# Altium integrated library Altium_SMD_Resister.IntLib: 493 symbols (part 7 of 8)
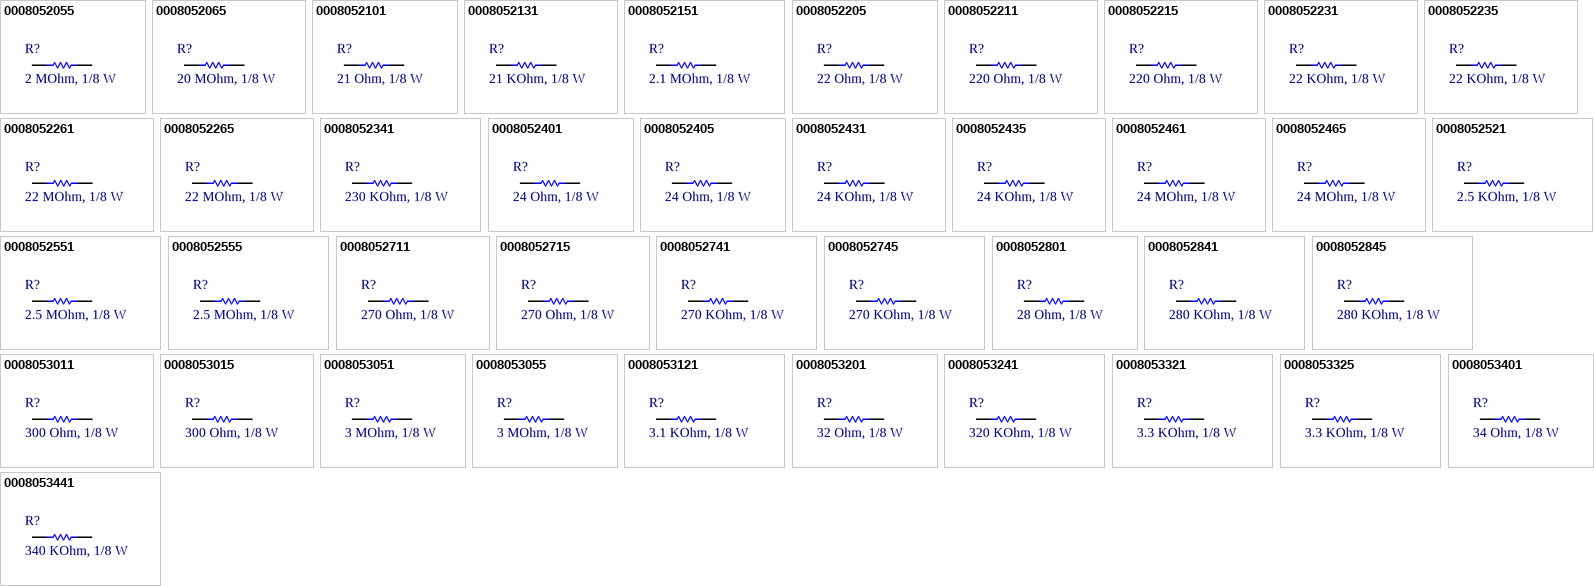
[diagram p18: symbols 0008052055 to 0008053441]

## 0008053051
designator R?, comment 3 MOhm, 1/8 W
RES, size 0805, 3 MOhm, 1/8 W; Manufacture  Name: Vishay / Dale; Manufacture  SN: CRCW08053M00FKEA; Resistance tolerance: +/-1%; Rated Power: 1/8 W; Resistance: 3 MOhm; Size: 0805; Mounting Technology: SMT; Datasheet: https://www.vishay.com/doc?20035; Supplier 1 Name: Mouser; Supplier 1 SN: 71-CRCW08053M00FKEA; Supplier 1 URL: https://www.mouser.vn/ProductDetail/Vishay-Dale/CRCW08053M00FKEA?qs=kJXytlGtIWmJu2iuqz4MEQ%3D%3D; Supplier 2 Name: Digi-Key; Supplier 2 SN: RHM3.00MAHTR-ND - Tape & Reel (TR); Supplier 2 URL: https://www.digikey.com/en/products/detail/rohm-semiconductor/KTR10EZPF3004/1983650; Supplier 3 Name: Thegioiic; Supplier 3 SN: N/A; Supplier 3 URL: N/A; Value: 3 MOhm, 1/8 W
footprint RESISTOR_0805 (Chip Resistor, 2-Leads, Body 2,00x1,20mm, IPC Medium Density)
pins: 1, 2

## 0008053055
designator R?, comment 3 MOhm, 1/8 W
RES, size 0805, 3 MOhm, 1/8 W; Manufacture  Name: Panasonic; Manufacture  SN: ERJ-6GEYJ305V; Resistance tolerance: +/-5%; Rated Power: 1/8 W; Resistance: 3 MOhm; Size: 0805; Mounting Technology: SMT; Datasheet: https://www.mouser.vn/datasheet/2/315/AOA0000C301-1488782.pdf; Supplier 1 Name: Mouser; Supplier 1 SN: 667-ERJ-6GEYJ305V; Supplier 1 URL: https://www.mouser.vn/ProductDetail/Panasonic/ERJ-6GEYJ305V?qs=YMBIwoNQYdW%2FI7cx0FQYDA%3D%3D; Supplier 2 Name: Digi-Key; Supplier 2 SN: P3.0MATR-ND - Tape & Reel (TR); Supplier 2 URL: https://www.digikey.com/en/products/detail/panasonic-electronic-components/ERJ-6GEYJ305V/282179; Supplier 3 Name: Thegioiic; Supplier 3 SN: N/A; Supplier 3 URL: N/A; Value: 3 MOhm, 1/8 W
footprint RESISTOR_0805 (Chip Resistor, 2-Leads, Body 2,00x1,20mm, IPC Medium Density)
pins: 1, 2

## 0008053121
designator R?, comment 3.1 KOhm, 1/8 W
RES, size 0805, 3.1 KOhm, 1/8 W; Manufacture  Name: Royalohm; Manufacture  SN: 0805W8F3101T5E; Resistance tolerance: +/-1%; Rated Power: 1/8 W; Size: 0805; Mounting Technology: SMT; Datasheet: https://www.mouser.vn/datasheet/2/1365/1-3044649.pdf; Resistance: 3.1 KOhm; Supplier 1 Name: Mouser; Supplier 1 SN: 303-0805W8F3101T5E; Supplier 1 URL: https://www.mouser.vn/ProductDetail/Royalohm/0805W8F3101T5E?qs=e8oIoAS2J1Tf1Mb5mAEVdw%3D%3D; Supplier 2 Name: Digi-Key; Supplier 2 SN: N/A; Supplier 2 URL: N/A; Supplier 3 Name: Thegioiic; Supplier 3 SN: N/A; Supplier 3 URL: N/A; Value: 3.1 KOhm, 1/8 W
footprint RESISTOR_0805 (Chip Resistor, 2-Leads, Body 2,00x1,20mm, IPC Medium Density)
pins: 1, 2

## 0008053201
designator R?, comment 32 Ohm, 1/8 W
RES, size 0805, 32 Ohm, 1/8 W; Manufacture  Name: KOA Speer Electronics, Inc.; Manufacture  SN: RN73R2ATTD32R0F100; Resistance tolerance: +/-1%; Rated Power: 1/8 W; Resistance: 32 Ohm; Size: 0805; Mounting Technology: SMT; Datasheet: https://media.digikey.com/pdf/Data%20Sheets/KOA%20Speer/RN73R_Type_DS.pdf; Supplier 1 Name: Mouser; Supplier 1 SN: N/A; Supplier 1 URL: N/A; Supplier 2 Name: Digi-Key; Supplier 2 SN: 2019-RN73R2ATTD32R0F100TR-ND - Tape & Reel (TR); Supplier 2 URL: https://www.digikey.com/en/products/detail/koa-speer-electronics-inc/RN73R2ATTD32R0F100/10030831; Supplier 3 Name: Thegioiic; Supplier 3 SN: N/A; Supplier 3 URL: N/A; Value: 32 Ohm, 1/8 W
footprint RESISTOR_0805 (Chip Resistor, 2-Leads, Body 2,00x1,20mm, IPC Medium Density)
pins: 1, 2

## 0008053241
designator R?, comment 320 KOhm, 1/8 W
RES, size 0805, 320 KOhm, 1/8 W; Manufacture  Name: Royalohm; Manufacture  SN: 0805W8F3203T5E; Resistance tolerance: +/-1%; Rated Power: 1/8 W; Size: 0805; Mounting Technology: SMT; Datasheet: https://www.mouser.vn/datasheet/2/1365/1-3044649.pdf; Resistance: 320 KOhm; Supplier 1 Name: Mouser; Supplier 1 SN: 303-0805W8F3203T5E; Supplier 1 URL: https://www.mouser.vn/ProductDetail/Royalohm/0805W8F3203T5E?qs=e8oIoAS2J1SLbDpmWuICGg%3D%3D; Supplier 2 Name: Digi-Key; Supplier 2 SN: 2019-RN73H2ATTD3203F100TR-ND - Tape & Reel (TR); Supplier 2 URL: https://www.digikey.com/en/products/detail/koa-speer-electronics-inc/RN73H2ATTD3203F100/10090183; Supplier 3 Name: Thegioiic; Supplier 3 SN: N/A; Supplier 3 URL: N/A; Value: 320 KOhm, 1/8 W
footprint RESISTOR_0805 (Chip Resistor, 2-Leads, Body 2,00x1,20mm, IPC Medium Density)
pins: 1, 2

## 0008053321
designator R?, comment 3.3 KOhm, 1/8 W
RES, size 0805, 3.3 KOhm, 1/8 W; Manufacture  Name: Panasonic; Manufacture  SN: ERJ-6ENF3301V; Resistance tolerance: +/-1%; Rated Power: 1/8 W; Size: 0805; Mounting Technology: SMT; Datasheet: https://www.mouser.vn/datasheet/2/315/AOA0000C304-1149620.pdf; Resistance: 3.3 KOhm; Supplier 1 Name: Mouser; Supplier 1 SN: 667-ERJ-6ENF3301V; Supplier 1 URL: https://www.mouser.vn/ProductDetail/Panasonic/ERJ-6ENF3301V?qs=sGAEpiMZZMtlubZbdhIBIGigBIB3A6R9dIvMOtC7jmQ%3D; Supplier 2 Name: Digi-Key; Supplier 2 SN: 13-RC0805FR-133K3LTR-ND - Tape & Reel (TR); Supplier 2 URL: https://www.digikey.com/en/products/detail/yageo/RC0805FR-133K3L/14008213; Supplier 3 Name: Thegioiic; Supplier 3 SN: N/A; Supplier 3 URL: https://www.thegioiic.com/dien-tro-3-3-kohm-0805-1-; Value: 3.3 KOhm, 1/8 W
footprint RESISTOR_0805 (Chip Resistor, 2-Leads, Body 2,00x1,20mm, IPC Medium Density)
pins: 1, 2

## 0008053325
designator R?, comment 3.3 KOhm, 1/8 W
RES, size 0805, 3.3 KOhm, 1/8 W; Manufacture  Name: Panasonic; Manufacture  SN: ERJ-S06J332V; Resistance tolerance: +/-5%; Rated Power: 1/8 W; Size: 0805; Mounting Technology: SMT; Datasheet: https://www.mouser.vn/datasheet/2/315/AOA0000C334-1314047.pdf; Resistance: 3.3 KOhm; Supplier 1 Name: Mouser; Supplier 1 SN: 667-ERJ-S06J332V; Supplier 1 URL: https://www.mouser.vn/ProductDetail/Panasonic/ERJ-S06J332V?qs=Lnc17S3XxqC89pwdWk%2FMHQ%3D%3D; Supplier 2 Name: Digi-Key; Supplier 2 SN: P3.3KATR-ND - Tape & Reel (TR); Supplier 2 URL: https://www.digikey.com/en/products/detail/panasonic-electronic-components/ERJ-6GEYJ332V/83038; Supplier 3 Name: Thegioiic; Supplier 3 SN: N/A; Supplier 3 URL: https://www.thegioiic.com/dien-tro-3-3-kohm-0805-5; Value: 3.3 KOhm, 1/8 W
footprint RESISTOR_0805 (Chip Resistor, 2-Leads, Body 2,00x1,20mm, IPC Medium Density)
pins: 1, 2

## 0008053401
designator R?, comment 34 Ohm, 1/8 W
RES, size 0805, 34 Ohm, 1/8 W; Manufacture  Name: Panasonic; Manufacture  SN: ERJ-6ENF34R0V; Resistance tolerance: +/-1%; Rated Power: 1/8 W; Resistance: 34 Ohm; Size: 0805; Mounting Technology: SMT; Datasheet: https://www.mouser.vn/datasheet/2/315/AOA0000C304-1149620.pdf; Supplier 1 Name: Mouser; Supplier 1 SN: 667-ERJ-6ENF34R0V; Supplier 1 URL: https://www.mouser.vn/ProductDetail/Panasonic/ERJ-6ENF34R0V?qs=sGAEpiMZZMtlubZbdhIBIGigBIB3A6R9vyKOoGSmyyY%3D; Supplier 2 Name: Digi-Key; Supplier 2 SN: P34.0CTR-ND - Tape & Reel (TR); Supplier 2 URL: https://www.digikey.com/en/products/detail/panasonic-electronic-components/ERJ-6ENF34R0V/110995; Supplier 3 Name: Thegioiic; Supplier 3 SN: N/A; Supplier 3 URL: https://www.thegioiic.com/dien-tro-34-kohm-0805-1; Value: 34 Ohm, 1/8 W
footprint RESISTOR_0805 (Chip Resistor, 2-Leads, Body 2,00x1,20mm, IPC Medium Density)
pins: 1, 2

## 0008053441
designator R?, comment 340 KOhm, 1/8 W
RES, size 0805, 340 KOhm, 1/8 W; Manufacture  Name: Panasonic; Manufacture  SN: ERJ-S06F3403V; Resistance tolerance: +/-1%; Rated Power: 1/8 W; Size: 0805; Mounting Technology: SMT; Datasheet: https://www.mouser.vn/datasheet/2/315/AOA0000C334-1314047.pdf; Resistance: 340 KOhm; Supplier 1 Name: Mouser; Supplier 1 SN: 667-ERJ-S06F3403V; Supplier 1 URL: https://www.mouser.vn/ProductDetail/Panasonic/ERJ-S06F3403V?qs=sGAEpiMZZMtlubZbdhIBINuoixIUl6fxeLoMswtFUVs%3D; Supplier 2 Name: Digi-Key; Supplier 2 SN: 311-340KCRTR-ND - Tape & Reel (TR); Supplier 2 URL: https://www.digikey.com/en/products/detail/yageo/RC0805FR-07340KL/727875; Supplier 3 Name: Thegioiic; Supplier 3 SN: N/A; Supplier 3 URL: N/A; Value: 340 KOhm, 1/8 W
footprint RESISTOR_0805 (Chip Resistor, 2-Leads, Body 2,00x1,20mm, IPC Medium Density)
pins: 1, 2

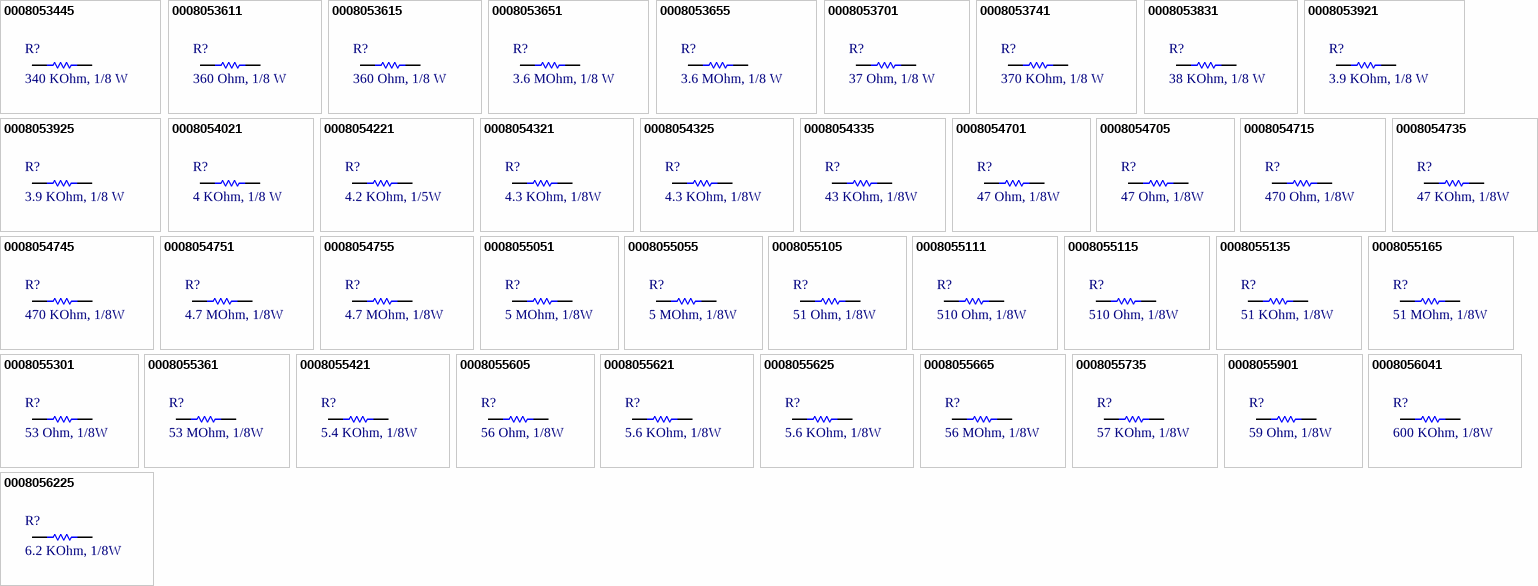
[diagram p10: symbols 0008053445 to 0008056225]

## 0008053445
designator R?, comment 340 KOhm, 1/8 W
RES, size 0805, 340 KOhm, 1/8 W; Manufacture  Name: 756-LHVC0805-340KJT5; Manufacture  SN: LHVC0805-340KJT5; Resistance tolerance: +/-5%; Rated Power: 1/8 W; Size: 0805; Mounting Technology: SMT; Datasheet: https://www.ttelectronics.com/TTElectronics/media/ProductFiles/Datasheets/LHVC.pdf; Resistance: 340 KOhm; Supplier 1 Name: Mouser; Supplier 1 SN: 756-LHVC0805-340KJT5; Supplier 1 URL: https://www.mouser.vn/ProductDetail/Welwyn-Components-TT-Electronics/LHVC0805-340KJT5?qs=GY4PX5ytnAgjdzirgpTyKQ%3D%3D; Supplier 2 Name: Digi-Key; Supplier 2 SN: N/A; Supplier 2 URL: N/A; Supplier 3 Name: Thegioiic; Supplier 3 SN: N/A; Supplier 3 URL: N/A; Value: 340 KOhm, 1/8 W
footprint RESISTOR_0805 (Chip Resistor, 2-Leads, Body 2,00x1,20mm, IPC Medium Density)
pins: 1, 2

## 0008053611
designator R?, comment 360 Ohm, 1/8 W
RES, size 0805, 360 Ohm, 1/8 W; Manufacture  Name: Panasonic; Manufacture  SN: ERJ-6ENF3600V; Resistance tolerance: +/-1%; Rated Power: 1/8 W; Resistance: 360 Ohm; Size: 0805; Mounting Technology: SMT; Datasheet: https://www.mouser.vn/datasheet/2/315/AOA0000C304-1149620.pdf; Supplier 1 Name: Mouser; Supplier 1 SN: 667-ERJ-6ENF3600V; Supplier 1 URL: https://www.mouser.vn/ProductDetail/Panasonic/ERJ-6ENF3600V?qs=sGAEpiMZZMtlubZbdhIBIGigBIB3A6R9lBl3j8zMMkE%3D; Supplier 2 Name: Digi-Key; Supplier 2 SN: 311-360CRTR-ND - Tape & Reel (TR); Supplier 2 URL: https://www.digikey.com/en/products/detail/yageo/RC0805FR-07360RL/727886; Supplier 3 Name: Thegioiic; Supplier 3 SN: N/A; Supplier 3 URL: N/A; Value: 360 Ohm, 1/8 W
footprint RESISTOR_0805 (Chip Resistor, 2-Leads, Body 2,00x1,20mm, IPC Medium Density)
pins: 1, 2

## 0008053615
designator R?, comment 360 Ohm, 1/8 W
RES, size 0805, 360 Ohm, 1/8 W; Manufacture  Name: Bourns; Manufacture  SN: CR0805-JW-361ELF; Resistance tolerance: +/-5%; Rated Power: 1/8 W; Resistance: 360 Ohm; Size: 0805; Mounting Technology: SMT; Datasheet: https://www.mouser.vn/datasheet/2/54/cr-1858361.pdf; Supplier 1 Name: Mouser; Supplier 1 SN: 652-CR0805JW-361ELF; Supplier 1 URL: https://www.mouser.vn/ProductDetail/Bourns/CR0805-JW-361ELF?qs=%252BcBkmVQIZ2S%2FXKtSNkfUkg%3D%3D; Supplier 2 Name: Digi-Key; Supplier 2 SN: 118-CR0805-JW-361ELFTR-ND - Tape & Reel (TR); Supplier 2 URL: https://www.digikey.com/en/products/detail/bourns-inc/CR0805-JW-361ELF/3785307; Supplier 3 Name: Thegioiic; Supplier 3 SN: N/A; Supplier 3 URL: https://www.thegioiic.com/dien-tro-360-ohm-0805-5; Value: 360 Ohm, 1/8 W
footprint RESISTOR_0805 (Chip Resistor, 2-Leads, Body 2,00x1,20mm, IPC Medium Density)
pins: 1, 2

## 0008053651
designator R?, comment 3.6 MOhm, 1/8 W
RES, size 0805, 3.6 MOhm, 1/8 W; Manufacture  Name: Vishay / Dale; Manufacture  SN: CRCW08053M60FKEA; Resistance tolerance: +/-1%; Rated Power: 1/8 W; Size: 0805; Mounting Technology: SMT; Datasheet: https://www.vishay.com/doc?20035; Resistance: 3.6 MOhm; Supplier 1 Name: Mouser; Supplier 1 SN: 71-CRCW08053M60FKEA; Supplier 1 URL: https://www.mouser.vn/ProductDetail/Vishay-Dale/CRCW08053M60FKEA?qs=DfgzkkA2Qx1vRqdcWwqQnA%3D%3D; Supplier 2 Name: Digi-Key; Supplier 2 SN: 541-3.60MCTR-ND - Tape & Reel (TR); Supplier 2 URL: https://www.digikey.com/en/products/detail/vishay-dale/CRCW08053M60FKEA/1176078; Supplier 3 Name: Thegioiic; Supplier 3 SN: N/A; Supplier 3 URL: N/A; Value: 3.6 MOhm, 1/8 W
footprint RESISTOR_0805 (Chip Resistor, 2-Leads, Body 2,00x1,20mm, IPC Medium Density)
pins: 1, 2

## 0008053655
designator R?, comment 3.6 MOhm, 1/8 W
RES, size 0805, 3.6 MOhm, 1/8 W; Manufacture  Name: Panasonic; Manufacture  SN: ERJ-6GEYJ365V; Resistance tolerance: +/-5%; Rated Power: 1/8 W; Size: 0805; Mounting Technology: SMT; Datasheet: https://www.mouser.vn/datasheet/2/315/AOA0000C301-1488782.pdf; Resistance: 3.6 MOhm; Supplier 1 Name: Mouser; Supplier 1 SN: 667-ERJ-6GEYJ365V; Supplier 1 URL: https://www.mouser.vn/ProductDetail/Panasonic/ERJ-6GEYJ365V?qs=YMBIwoNQYdWT6WkHu%252Bwzuw%3D%3D; Supplier 2 Name: Digi-Key; Supplier 2 SN: P3.6MATR-ND - Tape & Reel (TR); Supplier 2 URL: https://www.digikey.com/en/products/detail/panasonic-electronic-components/ERJ-6GEYJ365V/282181; Supplier 3 Name: Thegioiic; Supplier 3 SN: N/A; Supplier 3 URL: N/A; Value: 3.6 MOhm, 1/8 W
footprint RESISTOR_0805 (Chip Resistor, 2-Leads, Body 2,00x1,20mm, IPC Medium Density)
pins: 1, 2

## 0008053701
designator R?, comment 37 Ohm, 1/8 W
RES, size 0805, 37 Ohm, 1/8 W; Manufacture  Name: KOA Speer Electronics, Inc.; Manufacture  SN: RN73R2ATTD37R0F50; Resistance tolerance: +/-1%; Rated Power: 1/8 W; Resistance: 37 Ohm; Size: 0805; Mounting Technology: SMT; Datasheet: https://media.digikey.com/pdf/Data%20Sheets/KOA%20Speer/RN73R_Type_DS.pdf; Supplier 1 Name: Mouser; Supplier 1 SN: N/A; Supplier 1 URL: N/A; Supplier 2 Name: Digi-Key; Supplier 2 SN: 2019-RN73R2ATTD37R0F50TR-ND - Tape & Reel (TR); Supplier 2 URL: https://www.digikey.com/en/products/detail/koa-speer-electronics-inc/RN73R2ATTD37R0F50/10031868; Supplier 3 Name: Thegioiic; Supplier 3 SN: N/A; Supplier 3 URL: N/A; Value: 37 Ohm, 1/8 W
footprint RESISTOR_0805 (Chip Resistor, 2-Leads, Body 2,00x1,20mm, IPC Medium Density)
pins: 1, 2

## 0008053741
designator R?, comment 370 KOhm, 1/8 W
RES, size 0805, 370 KOhm, 1/8 W; Manufacture  Name: Royalohm; Manufacture  SN: 0805W8F3703T5E; Resistance tolerance: +/-1%; Rated Power: 1/8 W; Size: 0805; Mounting Technology: SMT; Datasheet: https://www.mouser.vn/datasheet/2/1365/1-3044649.pdf; Resistance: 370 KOhm; Supplier 1 Name: Mouser; Supplier 1 SN: 303-0805W8F3703T5E; Supplier 1 URL: https://www.mouser.vn/ProductDetail/Royalohm/0805W8F3703T5E?qs=e8oIoAS2J1QGY4HfIoRyBQ%3D%3D; Supplier 2 Name: Digi-Key; Supplier 2 SN: 2019-RN73R2ATTD3703F50TR-ND - Tape & Reel (TR); Supplier 2 URL: https://www.digikey.com/en/products/detail/koa-speer-electronics-inc/RN73R2ATTD3703F50/10031730; Supplier 3 Name: Thegioiic; Supplier 3 SN: N/A; Supplier 3 URL: N/A; Value: 370 KOhm, 1/8 W
footprint RESISTOR_0805 (Chip Resistor, 2-Leads, Body 2,00x1,20mm, IPC Medium Density)
pins: 1, 2

## 0008053831
designator R?, comment 38 KOhm, 1/8 W
RES, size 0805, 38 KOhm, 1/8 W; Manufacture  Name: Vishay / Dale; Manufacture  SN: CRCW080538K0FKTA; Resistance tolerance: +/-1%; Rated Power: 1/8 W; Resistance: 38 KOhm; Size: 0805; Mounting Technology: SMT; Datasheet: https://www.vishay.com/doc?20008; Supplier 1 Name: Mouser; Supplier 1 SN: 71-CRCW080538K0FKTA; Supplier 1 URL: https://www.mouser.vn/ProductDetail/Vishay-Dale/CRCW080538K0FKTA?qs=G%2FXU5Rmt380cCuBsVuvGBg%3D%3D; Supplier 2 Name: Digi-Key; Supplier 2 SN: CRCW080538K0FKTA-ND - Tape & Reel (TR); Supplier 2 URL: https://www.digikey.com/en/products/detail/vishay-dale/CRCW080538K0FKTA/5075022?s=N4IgjCBcoMxaBjKAzAhgGwM4FMA0IB7KAbXDBggF18AHAFyhAGU6AnASwDsBzEAX3xgATAE4I0EEkhoseQiRAwRMIQA4Q1EPUYsOPfviEAGVQFZ4klBhz4ikUjFUACANYB5ABYBbTBtoNIEABVTnY6N2QAWWxUTABXVmx%2BPj4gA; Supplier 3 Name: Thegioiic; Supplier 3 SN: N/A; Supplier 3 URL: N/A; Value: 38 KOhm, 1/8 W
footprint RESISTOR_0805 (Chip Resistor, 2-Leads, Body 2,00x1,20mm, IPC Medium Density)
pins: 1, 2

## 0008053921
designator R?, comment 3.9 KOhm, 1/8 W
RES, size 0805, 3.9 KOhm, 1/8 W; Manufacture  Name: Bourns; Manufacture  SN: CR0805-FX-3901ELF; Resistance tolerance: +/-1%; Rated Power: 1/8 W; Size: 0805; Mounting Technology: SMT; Datasheet: https://www.mouser.vn/datasheet/2/54/cr-1858361.pdf; Resistance: 3.9 KOhm; Supplier 1 Name: Mouser; Supplier 1 SN: 652-CR0805FX-3901ELF; Supplier 1 URL: https://www.mouser.vn/ProductDetail/Bourns/CR0805-FX-3901ELF?qs=TYKCbaKwe1D27AYhD5%2FCCg%3D%3D; Supplier 2 Name: Digi-Key; Supplier 2 SN: 118-CR0805-FX-3901ELFTR-ND - Tape & Reel (TR); Supplier 2 URL: https://www.digikey.com/en/products/detail/bourns-inc/CR0805-FX-3901ELF/3784914; Supplier 3 Name: Thegioiic; Supplier 3 SN: N/A; Supplier 3 URL: https://www.thegioiic.com/dien-tro-3-9-kohm-0805-1; Value: 3.9 KOhm, 1/8 W
footprint RESISTOR_0805 (Chip Resistor, 2-Leads, Body 2,00x1,20mm, IPC Medium Density)
pins: 1, 2

## 0008053925
designator R?, comment 3.9 KOhm, 1/8 W
RES, size 0805, 3.9 KOhm, 1/8 W; Manufacture  Name: YAGEO; Manufacture  SN: AC0805JR-073K9L; Resistance tolerance: +/-5%; Rated Power: 1/8 W; Size: 0805; Mounting Technology: SMT; Datasheet: https://www.mouser.vn/datasheet/2/447/PYu_AC_51_RoHS_L_9-3005297.pdf; Resistance: 3.9 KOhm; Supplier 1 Name: Mouser; Supplier 1 SN: 603-AC0805JR-073K9L; Supplier 1 URL: https://www.mouser.vn/ProductDetail/YAGEO/AC0805JR-073K9L?qs=TI15CVqcli3H7xgSN0L6lg%3D%3D; Supplier 2 Name: Digi-Key; Supplier 2 SN: 311-3.9KARTR-ND - Tape & Reel (TR); Supplier 2 URL: https://www.digikey.com/en/products/detail/yageo/RC0805JR-073K9L/728305; Supplier 3 Name: Thegioiic; Supplier 3 SN: N/A; Supplier 3 URL: https://www.thegioiic.com/dien-tro-3-9-kohm-0805-5; Value: 3.9 KOhm, 1/8 W
footprint RESISTOR_0805 (Chip Resistor, 2-Leads, Body 2,00x1,20mm, IPC Medium Density)
pins: 1, 2

## 0008054021
designator R?, comment 4 KOhm, 1/8 W
RES, size 0805, 4 KOhm, 1/8 W; Manufacture  Name: Vishay / Dale; Manufacture  SN: CRCW08054K00FKTA; Resistance tolerance: +/-1%; Rated Power: 1/8 W; Resistance: 4 KOhm; Size: 0805; Mounting Technology: SMT; Datasheet: https://www.vishay.com/doc?20008; Supplier 1 Name: Mouser; Supplier 1 SN: 71-CRCW0805-4K; Supplier 1 URL: https://www.mouser.vn/ProductDetail/Vishay-Dale/CRCW08054K00FKTA?qs=O7pb%252BE5gJ7RWLcqNUk6AxA%3D%3D; Supplier 2 Name: Digi-Key; Supplier 2 SN: 541-CRCW08054K00FKTATR-ND - Tape & Reel (TR); Supplier 2 URL: https://www.digikey.com/en/products/detail/vishay-dale/CRCW08054K00FKTA/5075408; Supplier 3 Name: Thegioiic; Supplier 3 SN: N/A; Supplier 3 URL: N/A; Value: 4 KOhm, 1/8 W
footprint RESISTOR_0805 (Chip Resistor, 2-Leads, Body 2,00x1,20mm, IPC Medium Density)
pins: 1, 2

## 0008054221
designator R?, comment 4.2 KOhm, 1/5W
RES, size 0805, 4.2 KOhm, 1/5W; Resistance Tolerance: +/-1%; Rated Power: 1/8 W; Resistance: 4.2 KOhm; Supplier 1 Name: Mouser; Supplier 1 SN: N/A; Supplier 1 URL: N/A; Supplier 2 Name: Digi-Key; Supplier 2 SN: Y16244K20000F9W-ND; Supplier 2 URL: https://www.digikey.com/en/products/detail/vpg-foil-resistors/Y16244K20000F9W/4230261?s=N4IgjCBcoMxaBjKAzAhgGwM4FMA0IB7KAbXDBggF18AHAFyhAGU6AnASwDsBzEAX3wAmAAwAOAKzwQSSGix5CJEABYAdIIAEAawDyACwC2mENRD1GAVU7s6O5AFlsqTAFdW2fgJCCl7zO0w6AlYQfDFhSUo%2BIA; Size: 0805; Supplier 3 Name: Thegioiic; Supplier 3 SN: N/A; Supplier 3 URL: N/A; Mounting Technology: SMT; Datasheet: N/A; Manufacture  Name: N/A; Manufacture  SN: N/A; Value: 4.2 KOhm, 1/5W
footprint RESISTOR_0805 (Chip Resistor, 2-Leads, Body 2,00x1,20mm, IPC Medium Density)
pins: 1, 2

## 0008054321
designator R?, comment 4.3 KOhm, 1/8W
RES, size 0805, 4.3 KOhm, 1/8W; Resistance Tolerance: +/-1%; Size: 0805; Rated Power: 1/8 W; Supplier 1 Name: Mouser; Supplier 1 SN: 652-CR0805FX-4301ELF; Supplier 1 URL: https://www.mouser.vn/ProductDetail/Bourns/CR0805-FX-4301ELF?qs=sGAEpiMZZMtG0KNrPCHnjfC2zYK6Lg3%2FBHUTuTFrqKo%3D; Supplier 2 Name: Digi-Key; Supplier 2 SN: RMCF0805FT4K30DKR-ND; Supplier 2 URL: https://www.digikey.com/en/products/detail/stackpole-electronics-inc/RMCF0805FT4K30/1760198; Resistance: 4.3 KOhm; Mounting Technology: SMT; Supplier 3 Name: Thegioiic; Supplier 3 SN: N/A; Supplier 3 URL: N/A; Datasheet: N/A; Manufacture  Name: N/A; Manufacture  SN: N/A; Value: 4.3 KOhm, 1/8W
footprint RESISTOR_0805 (Chip Resistor, 2-Leads, Body 2,00x1,20mm, IPC Medium Density)
pins: 1, 2

## 0008054325
designator R?, comment 4.3 KOhm, 1/8W
RES, size 0805, 4.3 KOhm, 1/8W; Resistance Tolerance: +/-1%; Resistance: 4.3 KOhm; Size: 0805; Rated Power: 1/8 W; Supplier 1 Name: Mouser; Supplier 1 SN: 603-AC0805JR-074K3L; Supplier 1 URL: https://www.mouser.vn/ProductDetail/YAGEO/AC0805JR-074K3L?qs=TI15CVqcli3mEGJiw0eocw%3D%3D; Supplier 2 Name: Digi-Key; Supplier 2 SN: 311-4.3KARTR-ND; Supplier 2 URL: https://www.digikey.com/en/products/detail/yageo/RC0805JR-074K3L/728324; Mounting Technology: SMT; Supplier 3 Name: Thegioiic; Supplier 3 SN: N/A; Supplier 3 URL: N/A; Datasheet: N/A; Manufacture  Name: N/A; Manufacture  SN: N/A; Value: 4.3 KOhm, 1/8W
footprint RESISTOR_0805 (Chip Resistor, 2-Leads, Body 2,00x1,20mm, IPC Medium Density)
pins: 1, 2

## 0008054335
designator R?, comment 43 KOhm, 1/8W
RES, size 0805, 43 KOhm, 1/8W; Resistance: 43 KOhm; Resistance Tolerance: +/-1%; Size: 0805; Rated Power: 1/8 W; Supplier 1 Name: Mouser; Supplier 1 SN: 603-RC0805JR-0743KL; Supplier 1 URL: https://www.mouser.vn/ProductDetail/YAGEO/RC0805JR-0743KL?qs=fRxXYNj8ftFNnTPBpvTm6A%3D%3D; Supplier 2 Name: Digi-Key; Supplier 2 SN: 311-43KARTR-ND; Supplier 2 URL: https://www.digikey.com/en/products/detail/yageo/RC0805JR-0743KL/728332; Mounting Technology: SMT; Supplier 3 Name: Thegioiic; Supplier 3 SN: N/A; Supplier 3 URL: N/A; Datasheet: N/A; Manufacture  Name: N/A; Manufacture  SN: N/A; Value: 43 KOhm, 1/8W
footprint RESISTOR_0805 (Chip Resistor, 2-Leads, Body 2,00x1,20mm, IPC Medium Density)
pins: 1, 2

## 0008054701
designator R?, comment 47 Ohm, 1/8W
RES, size 0805, 47 Ohm, 1/8W; Resistance: 47 Ohm; Resistance Tolerance: +/-1%; Size: 0805; Rated Power: 1/8 W; Supplier 1 Name: Mouser; Supplier 1 SN: 71-CRCW080547R0FKEAC; Supplier 1 URL: https://www.mouser.vn/ProductDetail/Vishay-Dale/CRCW080547R0FKEAC?qs=sGAEpiMZZMtG0KNrPCHnjXEaY7S8QU1xqWAhWghT5Nm8CvYwuUC%2Fbg%3D%3D; Supplier 2 Name: Digi-Key; Supplier 2 SN: YAG3736DKR-ND; Supplier 2 URL: https://www.digikey.com/en/products/detail/yageo/AC0805FR-0747RL/5896860; Mounting Technology: SMT; Supplier 3 Name: Thegioiic; Supplier 3 SN: N/A; Supplier 3 URL: N/A; Datasheet: N/A; Manufacture  Name: N/A; Manufacture  SN: N/A; Value: 47 Ohm, 1/8W
footprint RESISTOR_0805 (Chip Resistor, 2-Leads, Body 2,00x1,20mm, IPC Medium Density)
pins: 1, 2

## 0008054705
designator R?, comment 47 Ohm, 1/8W
RES, size 0805, 47 Ohm, 1/8W; Resistance: 47 Ohm; Resistance Tolerance: +/-1%; Size: 0805; Rated Power: 1/8 W; Supplier 1 Name: Mouser; Supplier 1 SN: 603-SR0805JR-7W47RL; Supplier 1 URL: https://www.mouser.vn/ProductDetail/YAGEO/SR0805JR-7W47RL?qs=qpJ%252B%252B%252Bdg6p2peTGbDOh2RQ%3D%3D; Supplier 2 Name: Digi-Key; Supplier 2 SN: 311-47ARTR-ND; Supplier 2 URL: https://www.digikey.com/en/products/detail/yageo/RC0805JR-0747RL/728335; Mounting Technology: SMT; Supplier 3 Name: Thegioiic; Supplier 3 SN: N/A; Supplier 3 URL: N/A; Datasheet: N/A; Manufacture  Name: N/A; Manufacture  SN: N/A; Value: 47 Ohm, 1/8W
footprint RESISTOR_0805 (Chip Resistor, 2-Leads, Body 2,00x1,20mm, IPC Medium Density)
pins: 1, 2

## 0008054715
designator R?, comment 470 Ohm, 1/8W
RES, size 0805, 470 Ohm, 1/8W; Resistance: 470 Ohm; Resistance Tolerance: +/-1%; Size: 0805; Rated Power: 1/8 W; Supplier 1 Name: Mouser; Supplier 1 SN: N/A; Supplier 1 URL: N/A; Supplier 2 Name: Digi-Key; Supplier 2 SN: 311-470ARTR-ND; Supplier 2 URL: https://www.digikey.com/en/products/detail/yageo/RC0805JR-07470RL/728333; Mounting Technology: SMT; Supplier 3 Name: Thegioiic; Supplier 3 SN: N/A; Supplier 3 URL: N/A; Datasheet: N/A; Manufacture  Name: N/A; Manufacture  SN: N/A; Value: 470 Ohm, 1/8W
footprint RESISTOR_0805 (Chip Resistor, 2-Leads, Body 2,00x1,20mm, IPC Medium Density)
pins: 1, 2

## 0008054735
designator R?, comment 47 KOhm, 1/8W
RES, size 0805, 47 KOhm, 1/8W; Resistance: 47 KOhm; Resistance Tolerance: +/-1%; Size: 0805; Rated Power: 1/8 W; Supplier 1 Name: Mouser; Supplier 1 SN: 652-CR0805JW-473ELF; Supplier 1 URL: https://www.mouser.vn/ProductDetail/Bourns/CR0805-JW-473ELF?qs=%252BcBkmVQIZ2S5L%2FTv0l5Nkg%3D%3D; Supplier 2 Name: Digi-Key; Supplier 2 SN: 13-RC0805JR-1347KLTR-ND; Supplier 2 URL: https://www.digikey.com/en/products/detail/yageo/RC0805JR-1347KL/14286620; Mounting Technology: SMT; Supplier 3 Name: Thegioiic; Supplier 3 SN: N/A; Supplier 3 URL: N/A; Datasheet: N/A; Manufacture  Name: N/A; Manufacture  SN: N/A; Value: 47 KOhm, 1/8W
footprint RESISTOR_0805 (Chip Resistor, 2-Leads, Body 2,00x1,20mm, IPC Medium Density)
pins: 1, 2

## 0008054745
designator R?, comment 470 KOhm, 1/8W
RES, size 0805, 470 KOhm, 1/8W; Resistance Tolerance: +/-1%; Resistance: 470 KOhm; Size: 0805; Rated Power: 1/8 W; Supplier 1 Name: Mouser; Supplier 1 SN: 603-RC0805JR-10470KL; Supplier 1 URL: https://www.mouser.vn/ProductDetail/YAGEO/RC0805JR-10470KL?qs=qpJ%252B%252B%252Bdg6p2o1a4CuTWYzg%3D%3D; Supplier 2 Name: Digi-Key; Supplier 2 SN: 311-470KARTR-ND; Supplier 2 URL: https://www.digikey.com/en/products/detail/yageo/RC0805JR-07470KL/728334; Mounting Technology: SMT; Supplier 3 Name: Thegioiic; Supplier 3 SN: N/A; Supplier 3 URL: N/A; Datasheet: N/A; Manufacture  Name: N/A; Manufacture  SN: N/A; Value: 470 KOhm, 1/8W
footprint RESISTOR_0805 (Chip Resistor, 2-Leads, Body 2,00x1,20mm, IPC Medium Density)
pins: 1, 2

## 0008054751
designator R?, comment 4.7 MOhm, 1/8W
RES, size 0805, 4.7 MOhm, 1/8W; Resistance Tolerance: +/-1%; Resistance: 4.7 MOhm; Size: 0805; Rated Power: 1/8 W; Supplier 1 Name: Mouser; Supplier 1 SN: 71-CRCW08054M70FKEAC; Supplier 1 URL: https://www.mouser.vn/ProductDetail/Vishay-Dale/CRCW08054M70FKEAC?qs=sGAEpiMZZMtG0KNrPCHnjXEaY7S8QU1xD%2FzUprtrgpPLDplF24MA4A%3D%3D; Supplier 2 Name: Digi-Key; Supplier 2 SN: 311-4.70MCRDKR-ND; Supplier 2 URL: https://www.digikey.com/en/products/detail/yageo/RC0805FR-074M7L/727930; Mounting Technology: SMT; Supplier 3 Name: Thegioiic; Supplier 3 SN: N/A; Supplier 3 URL: N/A; Datasheet: N/A; Manufacture  Name: N/A; Manufacture  SN: N/A; Value: 4.7 MOhm, 1/8W
footprint RESISTOR_0805 (Chip Resistor, 2-Leads, Body 2,00x1,20mm, IPC Medium Density)
pins: 1, 2

## 0008054755
designator R?, comment 4.7 MOhm, 1/8W
RES, size 0805, 4.7 MOhm, 1/8W; Resistance Tolerance: +/-1%; Resistance: 4.7 MOhm; Size: 0805; Rated Power: 1/8 W; Supplier 1 Name: Mouser; Supplier 1 SN: 603-RV0805JR-074M7L; Supplier 1 URL: https://www.mouser.vn/ProductDetail/YAGEO/RV0805JR-074M7L?qs=XvqVlMQ4V3WjwKR%2FSBdWbg%3D%3D; Supplier 2 Name: Digi-Key; Supplier 2 SN: 311-4.7MARTR-ND; Supplier 2 URL: https://www.digikey.com/en/products/detail/yageo/RC0805JR-074M7L/728328; Mounting Technology: SMT; Supplier 3 Name: Thegioiic; Supplier 3 SN: N/A; Supplier 3 URL: N/A; Datasheet: N/A; Manufacture  Name: N/A; Manufacture  SN: N/A; Value: 4.7 MOhm, 1/8W
footprint RESISTOR_0805 (Chip Resistor, 2-Leads, Body 2,00x1,20mm, IPC Medium Density)
pins: 1, 2

## 0008055051
designator R?, comment 5 MOhm, 1/8W
RES, size 0805, 5 MOhm, 1/8W; Resistance: 5 MOhm; Resistance Tolerance: +/-1%; Size: 0805; Rated Power: 1/8 W; Supplier 1 Name: Mouser; Supplier 1 SN: N/A; Supplier 1 URL: N/A; Supplier 2 Name: Digi-Key; Supplier 2 SN: HVC0805T5004JETDKR-ND; Supplier 2 URL: https://www.digikey.com/en/products/detail/ohmite/HVC0805T5004JET/2709618; Mounting Technology: SMT; Supplier 3 Name: Thegioiic; Supplier 3 SN: N/A; Supplier 3 URL: N/A; Datasheet: N/A; Manufacture  Name: N/A; Manufacture  SN: N/A; Value: 5 MOhm, 1/8W
footprint RESISTOR_0805 (Chip Resistor, 2-Leads, Body 2,00x1,20mm, IPC Medium Density)
pins: 1, 2

## 0008055055
designator R?, comment 5 MOhm, 1/8W
RES, size 0805, 5 MOhm, 1/8W; Resistance: 5 MOhm; Resistance Tolerance: +/-1%; Size: 0805; Rated Power: 1/8 W; Supplier 1 Name: Mouser; Supplier 1 SN: 588-HVC0805T5004JET; Supplier 1 URL: https://www.mouser.vn/ProductDetail/Ohmite/HVC0805T5004JET?qs=IinxsTLir9kGxgRcWz40Rg%3D%3D; Supplier 2 Name: Digi-Key; Supplier 2 SN: HVC0805T5004JETTR-ND; Supplier 2 URL: https://www.digikey.com/en/products/detail/ohmite/HVC0805T5004JET/2709618?s=N4IgjCBcoMxaBjKAzAhgGwM4FMA0IB7KAbRACYBWABjgF18AHAFyhAGUmAnASwDsBzEAF98YMgE4I0EEkhoseQiRAxxMMgA4Q9EM1YceA4fjJUNFeDJQYc%2BIpFIUABAFkA8gAsAtpm2MWkCAAqrzcTG7ILtiomACunNjCQkJAA; Mounting Technology: SMT; Supplier 3 Name: Thegioiic; Supplier 3 SN: N/A; Supplier 3 URL: N/A; Datasheet: N/A; Manufacture  Name: N/A; Manufacture  SN: N/A; Value: 5 MOhm, 1/8W
footprint RESISTOR_0805 (Chip Resistor, 2-Leads, Body 2,00x1,20mm, IPC Medium Density)
pins: 1, 2

## 0008055105
designator R?, comment 51 Ohm, 1/8W
RES, size 0805, 51 Ohm, 1/8W; Resistance: 51 Ohm; Resistance Tolerance: +/-1%; Size: 0805; Rated Power: 1/8 W; Supplier 1 Name: Mouser; Supplier 1 SN: 603-AR0805JR-0751RL; Supplier 1 URL: https://www.mouser.vn/ProductDetail/YAGEO/AR0805JR-0751RL?qs=FNor9lU6pf8H%252BiQv38MEeQ%3D%3D; Supplier 2 Name: Digi-Key; Supplier 2 SN: 311-51ARTR-ND; Supplier 2 URL: https://www.digikey.com/en/products/detail/yageo/RC0805JR-0751RL/728345; Mounting Technology: SMT; Supplier 3 Name: Thegioiic; Supplier 3 SN: N/A; Supplier 3 URL: N/A; Datasheet: N/A; Manufacture  Name: N/A; Manufacture  SN: N/A; Value: 51 Ohm, 1/8W
footprint RESISTOR_0805 (Chip Resistor, 2-Leads, Body 2,00x1,20mm, IPC Medium Density)
pins: 1, 2

## 0008055111
designator R?, comment 510 Ohm, 1/8W
RES, size 0805, 510 Ohm, 1/8W; Resistance: 510 Ohm; Resistance Tolerance: +/-1%; Size: 0805; Rated Power: 1/8 W; Supplier 1 Name: Mouser; Supplier 1 SN: 755-SFR10EZPF5100; Supplier 1 URL: https://www.mouser.vn/ProductDetail/ROHM-Semiconductor/SFR10EZPF5100?qs=sGAEpiMZZMtlubZbdhIBIONtIqra%2FA5YrlwGIIC%252BgoQ%3D; Supplier 2 Name: Digi-Key; Supplier 2 SN: 311-510ARDKR-ND; Supplier 2 URL: https://www.digikey.com/en/products/detail/yageo/RC0805JR-07510RL/728343; Mounting Technology: SMT; Supplier 3 Name: Thegioiic; Supplier 3 SN: N/A; Supplier 3 URL: N/A; Datasheet: N/A; Manufacture  Name: N/A; Manufacture  SN: N/A; Value: 510 Ohm, 1/8W
footprint RESISTOR_0805 (Chip Resistor, 2-Leads, Body 2,00x1,20mm, IPC Medium Density)
pins: 1, 2

## 0008055115
designator R?, comment 510 Ohm, 1/8W
RES, size 0805, 510 Ohm, 1/8W; Resistance: 510 Ohm; Resistance Tolerance: +/-1%; Size: 0805; Rated Power: 1/8 W; Supplier 1 Name: Mouser; Supplier 1 SN: 603-AR0805JR-07510RL; Supplier 1 URL: https://www.mouser.vn/ProductDetail/YAGEO/AR0805JR-07510RL?qs=tggtontpCXM60VkCGWdMxQ%3D%3D; Supplier 2 Name: Digi-Key; Supplier 2 SN: 311-510ARTR-ND; Supplier 2 URL: https://www.digikey.com/en/products/detail/yageo/RC0805JR-07510RL/728343; Mounting Technology: SMT; Supplier 3 Name: Thegioiic; Supplier 3 SN: N/A; Supplier 3 URL: N/A; Datasheet: N/A; Manufacture  Name: N/A; Manufacture  SN: N/A; Value: 510 Ohm, 1/8W
footprint RESISTOR_0805 (Chip Resistor, 2-Leads, Body 2,00x1,20mm, IPC Medium Density)
pins: 1, 2

## 0008055135
designator R?, comment 51 KOhm, 1/8W
RES, size 0805, 51 KOhm, 1/8W; Resistance: 51 KOhm; Resistance Tolerance: +/-1%; Size: 0805; Rated Power: 1/8 W; Supplier 1 Name: Mouser; Supplier 1 SN: 603-AC0805JR-0751KL; Supplier 1 URL: https://www.mouser.vn/ProductDetail/YAGEO/AC0805JR-0751KL?qs=ygRr%2FtkhteugpbacGAXg%2FA%3D%3D; Supplier 2 Name: Digi-Key; Supplier 2 SN: 311-51KARTR-ND; Supplier 2 URL: https://www.digikey.com/en/products/detail/yageo/RC0805JR-0751KL/728346; Mounting Technology: SMT; Supplier 3 Name: Thegioiic; Supplier 3 SN: N/A; Supplier 3 URL: N/A; Datasheet: N/A; Manufacture  Name: N/A; Manufacture  SN: N/A; Value: 51 KOhm, 1/8W
footprint RESISTOR_0805 (Chip Resistor, 2-Leads, Body 2,00x1,20mm, IPC Medium Density)
pins: 1, 2

## 0008055165
designator R?, comment 51 MOhm, 1/8W
RES, size 0805, 51 MOhm, 1/8W; Resistance: 51 MOhm; Resistance Tolerance: +/-1%; Size: 0805; Rated Power: 1/8 W; Supplier 1 Name: Mouser; Supplier 1 SN: 603-RC0805JR-0751ML; Supplier 1 URL: https://www.mouser.vn/ProductDetail/YAGEO/RC0805JR-0751ML?qs=tggtontpCXNdnbFdxTk8lw%3D%3D; Supplier 2 Name: Digi-Key; Supplier 2 SN: 13-RC0805JR-0751MLTR-ND; Supplier 2 URL: https://www.digikey.com/en/products/detail/yageo/RC0805JR-0751ML/5919068; Mounting Technology: SMT; Supplier 3 Name: Thegioiic; Supplier 3 SN: N/A; Supplier 3 URL: N/A; Datasheet: N/A; Manufacture  Name: N/A; Manufacture  SN: N/A; Value: 51 MOhm, 1/8W
footprint RESISTOR_0805 (Chip Resistor, 2-Leads, Body 2,00x1,20mm, IPC Medium Density)
pins: 1, 2

## 0008055301
designator R?, comment 53 Ohm, 1/8W
RES, size 0805, 53 Ohm, 1/8W; Resistance: 53 Ohm; Resistance Tolerance: +/-1%; Size: 0805; Rated Power: 1/8 W; Supplier 1 Name: Mouser; Supplier 1 SN: N/A; Supplier 1 URL: N/A; Supplier 2 Name: Digi-Key; Supplier 2 SN: 2019-RN73R2ATTD53R0F25DKR-ND; Supplier 2 URL: https://www.digikey.com/en/products/detail/koa-speer-electronics-inc/RN73R2ATTD53R0F25/10034310; Mounting Technology: SMT; Supplier 3 Name: Thegioiic; Supplier 3 SN: N/A; Supplier 3 URL: N/A; Datasheet: N/A; Manufacture  Name: N/A; Manufacture  SN: N/A; Value: 53 Ohm, 1/8W
footprint RESISTOR_0805 (Chip Resistor, 2-Leads, Body 2,00x1,20mm, IPC Medium Density)
pins: 1, 2

## 0008055361
designator R?, comment 53 MOhm, 1/8W
RES, size 0805, 53 MOhm, 1/8W; Resistance: 53 MOhm; Resistance Tolerance: +/-1%; Size: 0805; Rated Power: 1/8 W; Supplier 1 Name: Mouser; Supplier 1 SN: 652-CR0805FX-4872ELF; Supplier 1 URL: https://www.mouser.vn/ProductDetail/Bourns/CR0805-FX-4872ELF?qs=sGAEpiMZZMtlubZbdhIBIL%252BKkaYz7rs3OXEDnL6C198%3D; Supplier 2 Name: Digi-Key; Supplier 2 SN: P48.7KCDKR-ND; Supplier 2 URL: https://www.digikey.com/en/products/detail/panasonic-electronic-components/ERJ-6ENF4872V/111609; Mounting Technology: SMT; Supplier 3 Name: Thegioiic; Supplier 3 SN: N/A; Supplier 3 URL: N/A; Datasheet: N/A; Manufacture  Name: N/A; Manufacture  SN: N/A; Value: 53 MOhm, 1/8W
footprint RESISTOR_0805 (Chip Resistor, 2-Leads, Body 2,00x1,20mm, IPC Medium Density)
pins: 1, 2

## 0008055421
designator R?, comment 5.4 KOhm, 1/8W
RES, size 0805, 5.4 KOhm, 1/8W; Resistance Tolerance: +/-1%; Resistance: 5.4 KOhm; Size: 0805; Rated Power: 1/8 W; Supplier 1 Name: Mouser; Supplier 1 SN: 652-CR0805FX-4872ELF; Supplier 1 URL: https://www.mouser.vn/ProductDetail/Bourns/CR0805-FX-4872ELF?qs=sGAEpiMZZMtlubZbdhIBIL%252BKkaYz7rs3OXEDnL6C198%3D; Supplier 2 Name: Digi-Key; Supplier 2 SN: P48.7KCDKR-ND; Supplier 2 URL: https://www.digikey.com/en/products/detail/panasonic-electronic-components/ERJ-6ENF4872V/111609; Mounting Technology: SMT; Supplier 3 Name: Thegioiic; Supplier 3 SN: N/A; Supplier 3 URL: N/A; Datasheet: N/A; Manufacture  Name: N/A; Manufacture  SN: N/A; Value: 5.4 KOhm, 1/8W
footprint RESISTOR_0805 (Chip Resistor, 2-Leads, Body 2,00x1,20mm, IPC Medium Density)
pins: 1, 2

## 0008055605
designator R?, comment 56 Ohm, 1/8W
RES, size 0805, 56 Ohm, 1/8W; Resistance: 56 Ohm; Resistance Tolerance: +/-1%; Size: 0805; Rated Power: 1/8 W; Supplier 1 Name: Mouser; Supplier 1 SN: 603-AR0805JR-0756RL; Supplier 1 URL: https://www.mouser.vn/ProductDetail/YAGEO/AR0805JR-0756RL?qs=tub3WQyKOl952gLjMEPqLg%3D%3D; Supplier 2 Name: Digi-Key; Supplier 2 SN: 311-56ARTR-ND; Supplier 2 URL: https://www.digikey.com/en/products/detail/yageo/RC0805JR-0756RL/728349; Mounting Technology: SMT; Supplier 3 Name: Thegioiic; Supplier 3 SN: N/A; Supplier 3 URL: N/A; Datasheet: N/A; Manufacture  Name: N/A; Manufacture  SN: N/A; Value: 56 Ohm, 1/8W
footprint RESISTOR_0805 (Chip Resistor, 2-Leads, Body 2,00x1,20mm, IPC Medium Density)
pins: 1, 2

## 0008055621
designator R?, comment 5.6 KOhm, 1/8W
RES, size 0805, 5.6 KOhm, 1/8W; Resistance Tolerance: +/-1%; Resistance: 5.6 KOhm; Size: 0805; Rated Power: 1/8 W; Supplier 1 Name: Mouser; Supplier 1 SN: 667-ERJ-S06F5601V; Supplier 1 URL: https://www.mouser.vn/ProductDetail/Panasonic/ERJ-S06F5601V?qs=sGAEpiMZZMtlubZbdhIBINuoixIUl6fxKooJ9AKHR88%3D; Supplier 2 Name: Digi-Key; Supplier 2 SN: 311-5.60KCRDKR-ND; Supplier 2 URL: https://www.digikey.com/en/products/detail/yageo/RC0805FR-075K6L/728002; Mounting Technology: SMT; Supplier 3 Name: Thegioiic; Supplier 3 SN: N/A; Supplier 3 URL: N/A; Datasheet: N/A; Manufacture  Name: N/A; Manufacture  SN: N/A; Value: 5.6 KOhm, 1/8W
footprint RESISTOR_0805 (Chip Resistor, 2-Leads, Body 2,00x1,20mm, IPC Medium Density)
pins: 1, 2

## 0008055625
designator R?, comment 5.6 KOhm, 1/8W
RES, size 0805, 5.6 KOhm, 1/8W; Resistance Tolerance: +/-1%; Resistance: 5.6 KOhm; Size: 0805; Rated Power: 1/8 W; Supplier 1 Name: Mouser; Supplier 1 SN: 603-RC0805JR-075K6L; Supplier 1 URL: https://www.mouser.vn/ProductDetail/YAGEO/RC0805JR-075K6L?qs=KyGMWp10Uku18wTu%252ByPOBA%3D%3D; Supplier 2 Name: Digi-Key; Supplier 2 SN: 311-5.6KARTR-ND; Supplier 2 URL: https://www.digikey.com/en/products/detail/yageo/RC0805JR-075K6L/728341; Mounting Technology: SMT; Supplier 3 Name: Thegioiic; Supplier 3 SN: N/A; Supplier 3 URL: N/A; Datasheet: N/A; Manufacture  Name: N/A; Manufacture  SN: N/A; Value: 5.6 KOhm, 1/8W
footprint RESISTOR_0805 (Chip Resistor, 2-Leads, Body 2,00x1,20mm, IPC Medium Density)
pins: 1, 2

## 0008055665
designator R?, comment 56 MOhm, 1/8W
RES, size 0805, 56 MOhm, 1/8W; Resistance: 56 MOhm; Resistance Tolerance: +/-1%; Size: 0805; Rated Power: 1/8 W; Supplier 1 Name: Mouser; Supplier 1 SN: 603-RC0805JR-0756ML; Supplier 1 URL: https://www.mouser.vn/ProductDetail/YAGEO/RC0805JR-0756ML?qs=fRxXYNj8ftHNqM0XV2acwg%3D%3D; Supplier 2 Name: Digi-Key; Supplier 2 SN: 13-RC0805JR-0756MLTR-ND; Supplier 2 URL: https://www.digikey.com/en/products/detail/yageo/RC0805JR-0756ML/5919069; Mounting Technology: SMT; Supplier 3 Name: Thegioiic; Supplier 3 SN: N/A; Supplier 3 URL: N/A; Datasheet: N/A; Manufacture  Name: N/A; Manufacture  SN: N/A; Value: 56 MOhm, 1/8W
footprint RESISTOR_0805 (Chip Resistor, 2-Leads, Body 2,00x1,20mm, IPC Medium Density)
pins: 1, 2

## 0008055735
designator R?, comment 57 KOhm, 1/8W
RES, size 0805, 57 KOhm, 1/8W; Resistance: 57 KOhm; Resistance Tolerance: +/-1%; Size: 0805; Rated Power: 1/8 W; Supplier 1 Name: Mouser; Supplier 1 SN: N/A; Supplier 1 URL: N/A; Supplier 2 Name: Digi-Key; Supplier 2 SN: CRCW080557K0JNTA-ND; Supplier 2 URL: https://www.digikey.com/en/products/detail/vishay-dale/CRCW080557K0JNTA/5075645?s=N4IgjCBcoMxaBjKAzAhgGwM4FMA0IB7KAbRACYBWABjgF18AHAFyhAGUmAnASwDsBzEAF98YMgE4I0EEkhoseQiRAxxMMgA4Q9EM1YceA4fjJUNFeDJQYc%2BIpFIUA7AAIA1gHkAFgFtM2xhZIEABVXm4mD2QAWWxUTABXTmxhISEgA; Mounting Technology: SMT; Supplier 3 Name: Thegioiic; Supplier 3 SN: N/A; Supplier 3 URL: N/A; Datasheet: N/A; Manufacture  Name: N/A; Manufacture  SN: N/A; Value: 57 KOhm, 1/8W
footprint RESISTOR_0805 (Chip Resistor, 2-Leads, Body 2,00x1,20mm, IPC Medium Density)
pins: 1, 2

## 0008055901
designator R?, comment 59 Ohm, 1/8W
RES, size 0805, 59 Ohm, 1/8W; Resistance: 59 Ohm; Resistance Tolerance: +/-1%; Size: 0805; Rated Power: 1/8 W; Supplier 1 Name: Mouser; Supplier 1 SN: 652-CR0805FX-59R0ELF; Supplier 1 URL: https://www.mouser.vn/ProductDetail/Bourns/CR0805-FX-59R0ELF?qs=sGAEpiMZZMtlubZbdhIBIL%252BKkaYz7rs3UvNcgONvTgQ%3D; Supplier 2 Name: Digi-Key; Supplier 2 SN: 311-59.0CRDKR-ND; Supplier 2 URL: https://www.digikey.com/en/products/detail/yageo/RC0805FR-0759RL/728044; Mounting Technology: SMT; Supplier 3 Name: Thegioiic; Supplier 3 SN: N/A; Supplier 3 URL: N/A; Datasheet: N/A; Manufacture  Name: N/A; Manufacture  SN: N/A; Value: 59 Ohm, 1/8W
footprint RESISTOR_0805 (Chip Resistor, 2-Leads, Body 2,00x1,20mm, IPC Medium Density)
pins: 1, 2

## 0008056041
designator R?, comment 600 KOhm, 1/8W
RES, size 0805, 600 KOhm, 1/8W; Resistance Tolerance: +/-1%; Resistance: 600 KOhm; Size: 0805; Rated Power: 1/8 W; Supplier 1 Name: Mouser; Supplier 1 SN: 603-RT0805FRE07604KL; Supplier 1 URL: https://www.mouser.vn/ProductDetail/YAGEO/RT0805FRE07604KL?qs=4CyHz7GXqShQoD1ZPz9cuQ%3D%3D; Supplier 2 Name: Digi-Key; Supplier 2 SN: 311-604KCRTR-ND; Supplier 2 URL: https://www.digikey.com/en/products/detail/yageo/RC0805FR-07604KL/728076; Mounting Technology: SMT; Supplier 3 Name: Thegioiic; Supplier 3 SN: N/A; Supplier 3 URL: N/A; Datasheet: N/A; Manufacture  Name: N/A; Manufacture  SN: N/A; Value: 600 KOhm, 1/8W
footprint RESISTOR_0805 (Chip Resistor, 2-Leads, Body 2,00x1,20mm, IPC Medium Density)
pins: 1, 2

## 0008056225
designator R?, comment 6.2 KOhm, 1/8W
RES, size 0805, 6.2 KOhm, 1/8W; Resistance Tolerance: +/-1%; Resistance: 6.2 KOhm; Size: 0805; Rated Power: 1/8 W; Supplier 1 Name: Mouser; Supplier 1 SN: 603-AR0805JR-076K2L; Supplier 1 URL: https://www.mouser.vn/ProductDetail/YAGEO/AR0805JR-076K2L?qs=tub3WQyKOl9JDoG6%2FuCsdg%3D%3D; Supplier 2 Name: Digi-Key; Supplier 2 SN: 311-6.2KARTR-ND; Supplier 2 URL: https://www.digikey.com/en/products/detail/yageo/RC0805JR-076K2L/728352; Mounting Technology: SMT; Supplier 3 Name: Thegioiic; Supplier 3 SN: N/A; Supplier 3 URL: N/A; Datasheet: N/A; Manufacture  Name: N/A; Manufacture  SN: N/A; Value: 6.2 KOhm, 1/8W
footprint RESISTOR_0805 (Chip Resistor, 2-Leads, Body 2,00x1,20mm, IPC Medium Density)
pins: 1, 2

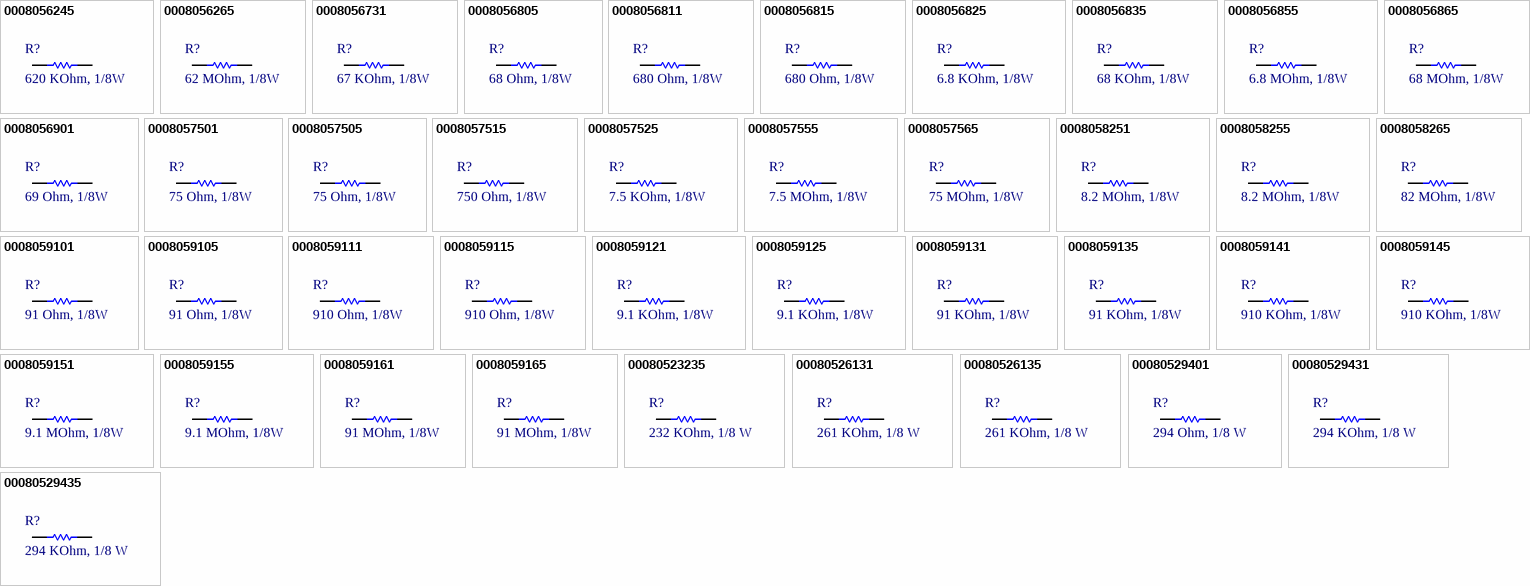
[diagram p11: symbols 0008056245 to 00080529435]

## 0008056245
designator R?, comment 620 KOhm, 1/8W
RES, size 0805, 620 KOhm, 1/8W; Resistance Tolerance: +/-1%; Resistance: 620 KOhm; Size: 0805; Rated Power: 1/8 W; Supplier 1 Name: Mouser; Supplier 1 SN: 603-RC0805JR-07620KL; Supplier 1 URL: https://www.mouser.vn/ProductDetail/YAGEO/RC0805JR-07620KL?qs=fRxXYNj8ftEPHa535%252B%252BhjA%3D%3D; Supplier 2 Name: Digi-Key; Supplier 2 SN: 311-620KARTR-ND; Supplier 2 URL: https://www.digikey.com/en/products/detail/yageo/RC0805JR-07620KL/728358; Mounting Technology: SMT; Supplier 3 Name: Thegioiic; Supplier 3 SN: N/A; Supplier 3 URL: N/A; Datasheet: N/A; Manufacture  Name: N/A; Manufacture  SN: N/A; Value: 620 KOhm, 1/8W
footprint RESISTOR_0805 (Chip Resistor, 2-Leads, Body 2,00x1,20mm, IPC Medium Density)
pins: 1, 2

## 0008056265
designator R?, comment 62 MOhm, 1/8W
RES, size 0805, 62 MOhm, 1/8W; Resistance: 62 MOhm; Resistance Tolerance: +/-1%; Size: 0805; Rated Power: 1/8 W; Supplier 1 Name: Mouser; Supplier 1 SN: 603-RC0805JR-0762ML; Supplier 1 URL: https://www.mouser.vn/ProductDetail/YAGEO/RC0805JR-0762ML?qs=tggtontpCXNKJF4OOPtvwQ%3D%3D; Supplier 2 Name: Digi-Key; Supplier 2 SN: RC0805JR-0762ML-ND; Supplier 2 URL: https://www.digikey.com/en/products/detail/yageo/RC0805JR-0762ML/5919070; Mounting Technology: SMT; Supplier 3 Name: Thegioiic; Supplier 3 SN: N/A; Supplier 3 URL: N/A; Datasheet: N/A; Manufacture  Name: N/A; Manufacture  SN: N/A; Value: 62 MOhm, 1/8W
footprint RESISTOR_0805 (Chip Resistor, 2-Leads, Body 2,00x1,20mm, IPC Medium Density)
pins: 1, 2

## 0008056731
designator R?, comment 67 KOhm, 1/8W
RES, size 0805, 67 KOhm, 1/8W; Resistance: 67 KOhm; Resistance Tolerance: +/-1%; Size: 0805; Rated Power: 1/8 W; Supplier 1 Name: Mouser; Supplier 1 SN: N/A; Supplier 1 URL: N/A; Supplier 2 Name: Digi-Key; Supplier 2 SN: CRCW080567K0FKTA-ND; Supplier 2 URL: https://www.digikey.com/en/products/detail/vishay-dale/CRCW080567K0FKTA/5075822?s=N4IgjCBcoMxaBjKAzAhgGwM4FMA0IB7KAbXDBggF18AHAFyhAGU6AnASwDsBzEAX3xgATAE4I0EEkhoseQiRAwRMIQA4Q1EPUYsOPfviEAGVQFZ4klBhz4ikUgDYA7AAIA1gHkAFgFtMG2gZIEABVTnY6D2QAWWxUTABXVmx%2BPj4gA; Mounting Technology: SMT; Supplier 3 Name: Thegioiic; Supplier 3 SN: N/A; Supplier 3 URL: N/A; Datasheet: N/A; Manufacture  Name: N/A; Manufacture  SN: N/A; Value: 67 KOhm, 1/8W
footprint RESISTOR_0805 (Chip Resistor, 2-Leads, Body 2,00x1,20mm, IPC Medium Density)
pins: 1, 2

## 0008056805
designator R?, comment 68 Ohm, 1/8W
RES, size 0805, 68 Ohm, 1/8W; Resistance: 68 Ohm; Resistance Tolerance: +/-1%; Size: 0805; Rated Power: 1/8 W; Supplier 1 Name: Mouser; Supplier 1 SN: 603-AR0805JR-0768RL; Supplier 1 URL: https://www.mouser.vn/ProductDetail/YAGEO/AR0805JR-0768RL?qs=tub3WQyKOl%252BOpPfup6Oz7w%3D%3D; Supplier 2 Name: Digi-Key; Supplier 2 SN: 311-68ARTR-ND; Supplier 2 URL: https://www.digikey.com/en/products/detail/yageo/RC0805JR-0768RL/728363; Mounting Technology: SMT; Supplier 3 Name: Thegioiic; Supplier 3 SN: N/A; Supplier 3 URL: N/A; Datasheet: N/A; Manufacture  Name: N/A; Manufacture  SN: N/A; Value: 68 Ohm, 1/8W
footprint RESISTOR_0805 (Chip Resistor, 2-Leads, Body 2,00x1,20mm, IPC Medium Density)
pins: 1, 2

## 0008056811
designator R?, comment 680 Ohm, 1/8W
RES, size 0805, 680 Ohm, 1/8W; Resistance: 680 Ohm; Resistance Tolerance: +/-1%; Size: 0805; Rated Power: 1/8 W; Supplier 1 Name: Mouser; Supplier 1 SN: 603-RT0805FRE13680RL; Supplier 1 URL: https://www.mouser.vn/ProductDetail/YAGEO/RT0805FRE13680RL?qs=1mbolxNpo8eGpxdYBPJieA%3D%3D; Supplier 2 Name: Digi-Key; Supplier 2 SN: 311-680CRTR-ND; Supplier 2 URL: https://www.digikey.com/en/products/detail/yageo/RC0805FR-07680RL/728101; Mounting Technology: SMT; Supplier 3 Name: Thegioiic; Supplier 3 SN: N/A; Supplier 3 URL: N/A; Datasheet: N/A; Manufacture  Name: N/A; Manufacture  SN: N/A; Value: 680 Ohm, 1/8W
footprint RESISTOR_0805 (Chip Resistor, 2-Leads, Body 2,00x1,20mm, IPC Medium Density)
pins: 1, 2

## 0008056815
designator R?, comment 680 Ohm, 1/8W
RES, size 0805, 680 Ohm, 1/8W; Resistance: 680 Ohm; Resistance Tolerance: +/-1%; Size: 0805; Rated Power: 1/8 W; Supplier 1 Name: Mouser; Supplier 1 SN: 603-AR0805JR-07680RL; Supplier 1 URL: https://www.mouser.vn/ProductDetail/YAGEO/AR0805JR-07680RL?qs=tub3WQyKOl9Nj7q7zlrhwQ%3D%3D; Supplier 2 Name: Digi-Key; Supplier 2 SN: 311-680ARTR-ND; Supplier 2 URL: https://www.digikey.com/en/products/detail/yageo/RC0805JR-07680RL/728361; Mounting Technology: SMT; Supplier 3 Name: Thegioiic; Supplier 3 SN: N/A; Supplier 3 URL: N/A; Datasheet: N/A; Manufacture  Name: N/A; Manufacture  SN: N/A; Value: 680 Ohm, 1/8W
footprint RESISTOR_0805 (Chip Resistor, 2-Leads, Body 2,00x1,20mm, IPC Medium Density)
pins: 1, 2

## 0008056825
designator R?, comment 6.8 KOhm, 1/8W
RES, size 0805, 6.8 KOhm, 1/8W; Resistance Tolerance: +/-1%; Resistance: 6.8 KOhm; Size: 0805; Rated Power: 1/8 W; Supplier 1 Name: Mouser; Supplier 1 SN: 603-RC0805JR-7W6K8L; Supplier 1 URL: https://www.mouser.vn/ProductDetail/YAGEO/RC0805JR-7W6K8L?qs=NgbZBzc1CyFHZaJSBAwTGw%3D%3D; Supplier 2 Name: Digi-Key; Supplier 2 SN: 311-6.8KARTR-ND; Supplier 2 URL: https://www.digikey.com/en/products/detail/yageo/RC0805JR-076K8L/728355; Mounting Technology: SMT; Supplier 3 Name: Thegioiic; Supplier 3 SN: N/A; Supplier 3 URL: N/A; Datasheet: N/A; Manufacture  Name: N/A; Manufacture  SN: N/A; Value: 6.8 KOhm, 1/8W
footprint RESISTOR_0805 (Chip Resistor, 2-Leads, Body 2,00x1,20mm, IPC Medium Density)
pins: 1, 2

## 0008056835
designator R?, comment 68 KOhm, 1/8W
RES, size 0805, 68 KOhm, 1/8W; Resistance: 68 KOhm; Resistance Tolerance: +/-1%; Size: 0805; Rated Power: 1/8 W; Supplier 1 Name: Mouser; Supplier 1 SN: 71-CRCW0805J-68K; Supplier 1 URL: https://www.mouser.vn/ProductDetail/Vishay-Dale/CRCW080568K0JNTA?qs=nQS51YdobUZaOBJTD9nqEw%3D%3D; Supplier 2 Name: Digi-Key; Supplier 2 SN: 311-68KARTR-ND; Supplier 2 URL: https://www.digikey.com/en/products/detail/yageo/RC0805JR-0768KL/728364; Mounting Technology: SMT; Supplier 3 Name: Thegioiic; Supplier 3 SN: N/A; Supplier 3 URL: N/A; Datasheet: N/A; Manufacture  Name: N/A; Manufacture  SN: N/A; Value: 68 KOhm, 1/8W
footprint RESISTOR_0805 (Chip Resistor, 2-Leads, Body 2,00x1,20mm, IPC Medium Density)
pins: 1, 2

## 0008056855
designator R?, comment 6.8 MOhm, 1/8W
RES, size 0805, 6.8 MOhm, 1/8W; Resistance Tolerance: +/-1%; Resistance: 6.8 MOhm; Size: 0805; Rated Power: 1/8 W; Supplier 1 Name: Mouser; Supplier 1 SN: 603-RC0805JR-076M8L; Supplier 1 URL: https://www.mouser.vn/ProductDetail/YAGEO/RC0805JR-076M8L?qs=fRxXYNj8ftHTATc%2FfMlhgw%3D%3D; Supplier 2 Name: Digi-Key; Supplier 2 SN: 311-6.8MARTR-ND; Supplier 2 URL: https://www.digikey.com/en/products/detail/yageo/RC0805JR-076M8L/728356; Mounting Technology: SMT; Supplier 3 Name: Thegioiic; Supplier 3 SN: N/A; Supplier 3 URL: N/A; Datasheet: N/A; Manufacture  Name: N/A; Manufacture  SN: N/A; Value: 6.8 MOhm, 1/8W
footprint RESISTOR_0805 (Chip Resistor, 2-Leads, Body 2,00x1,20mm, IPC Medium Density)
pins: 1, 2

## 0008056865
designator R?, comment 68 MOhm, 1/8W
RES, size 0805, 68 MOhm, 1/8W; Resistance: 68 MOhm; Resistance Tolerance: +/-1%; Size: 0805; Rated Power: 1/8 W; Supplier 1 Name: Mouser; Supplier 1 SN: 603-RC0805JR-1368ML; Supplier 1 URL: https://www.mouser.vn/ProductDetail/YAGEO/RC0805JR-1368ML?qs=T8x3LFb0A0T4wMo1k5YNtw%3D%3D; Supplier 2 Name: Digi-Key; Supplier 2 SN: 13-RC0805JR-0768MLTR-ND; Supplier 2 URL: https://www.digikey.com/en/products/detail/yageo/RC0805JR-0768ML/5919071; Mounting Technology: SMT; Supplier 3 Name: Thegioiic; Supplier 3 SN: N/A; Supplier 3 URL: N/A; Datasheet: N/A; Manufacture  Name: N/A; Manufacture  SN: N/A; Value: 68 MOhm, 1/8W
footprint RESISTOR_0805 (Chip Resistor, 2-Leads, Body 2,00x1,20mm, IPC Medium Density)
pins: 1, 2

## 0008056901
designator R?, comment 69 Ohm, 1/8W
RES, size 0805, 69 Ohm, 1/8W; Resistance: 69 Ohm; Resistance Tolerance: +/-1%; Size: 0805; Rated Power: 1/8 W; Supplier 1 Name: Mouser; Supplier 1 SN: N/A; Supplier 1 URL: N/A; Supplier 2 Name: Digi-Key; Supplier 2 SN: 2019-RN73R2ATTD69R0F100TR-ND; Supplier 2 URL: https://www.digikey.com/en/products/detail/koa-speer-electronics-inc/RN73R2ATTD69R0F100/10036308; Mounting Technology: SMT; Supplier 3 Name: Thegioiic; Supplier 3 SN: N/A; Supplier 3 URL: N/A; Datasheet: N/A; Manufacture  Name: N/A; Manufacture  SN: N/A; Value: 69 Ohm, 1/8W
footprint RESISTOR_0805 (Chip Resistor, 2-Leads, Body 2,00x1,20mm, IPC Medium Density)
pins: 1, 2

## 0008057501
designator R?, comment 75 Ohm, 1/8W
RES, size 0805, 75 Ohm, 1/8W; Resistance: 75 Ohm; Resistance Tolerance: +/-1%; Size: 0805; Rated Power: 1/8 W; Supplier 1 Name: Mouser; Supplier 1 SN: 603-RT0805FRE0775RL; Supplier 1 URL: https://www.mouser.vn/ProductDetail/YAGEO/RT0805FRE0775RL?qs=yNCrj0CQcyKAzvrIltP2ow%3D%3D; Supplier 2 Name: Digi-Key; Supplier 2 SN: 311-75.0CRTR-ND; Supplier 2 URL: https://www.digikey.com/en/products/detail/yageo/RC0805FR-0775RL/728132; Mounting Technology: SMT; Supplier 3 Name: Thegioiic; Supplier 3 SN: N/A; Supplier 3 URL: N/A; Datasheet: N/A; Manufacture  Name: N/A; Manufacture  SN: N/A; Value: 75 Ohm, 1/8W
footprint RESISTOR_0805 (Chip Resistor, 2-Leads, Body 2,00x1,20mm, IPC Medium Density)
pins: 1, 2